# EAGLE library part SHT3* (library bschulz)
SHT3x - Digital Humidity and Temperature Sensor Characteristics (for SHT35): Vcc: 2.15V ~ 5.5V Humidity Resolution: 0.01% RH Humidity Accuracy: ±1.5% RH Temperature Resolution: 0.01°C Temperature Accuracy: 0.1°C Operating Temperature: -40°C to 125°C Digikey: 1649-1065-1-ND (SHT30) <https://www.digikey.com/product-detail/en/sensirion-ag/SHT30-DIS-F2.5KS/1649-1065-1-ND/6212136> 1649-1066-1-ND (SHT31) <https://www.digikey.com/product-detail/en/sensirion-ag/SHT31-DIS-F2.5KS/1649-1066-1-ND/6212137> 1649-1067-1-ND (SHT35) <https://www.digikey.com/product-detail/en/sensirion-ag/SHT35-DIS-F2.5KS/1649-1067-1-ND/6212138>
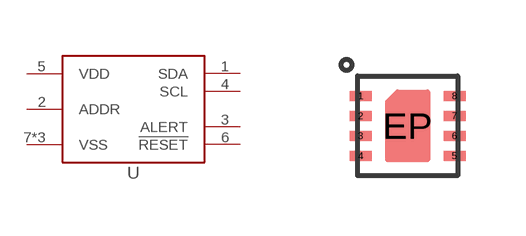
[diagram p94: symbol with the pads of DFN_8_2.5X2.5; footprint DFN_8_2.5X2.5]

Designator prefix U

## SHT3DFN (MF: Sensirion), SHT30DFN (DIGIKEY: 1649-1065-1-ND; DISP: SHT30; MF: Sensirion; MPN: SHT30-DIS-F2.5KS), SHT31DFN (DIGIKEY: 1649-1066-1-ND; DISP: SHT31; MF: Sensirion; MPN: SHT31-DIS-F2.5KS), SHT35DFN (DIGIKEY: 1649-1067-1-ND; DISP: SHT35; MF: Sensirion; MPN: SHT35-DIS-F2.5KS)  [DFN_8_2.5X2.5]
1  SDA
2  ADDR  in
3  ALERT  out
4  SCL  in
5  VDD  pwr
6  !RESET  in
7  VSS  pwr
8  VSS  pwr
EP  VSS  pwr

## Footprint DFN_8_2.5X2.5 (pad centres in mm)
DFN Package for SHT3x-DIS (SHT31, SHT35) Ref Datasheet <https://media.digikey.com/pdf/Data%20Sheets/Sensirion%20PDFs/HT_DS_SHT3x_DIS.pdf>
smd 0.55 x 0.25: 1 -1.175,0.75; 2 -1.175,0.25; 3 -1.175,-0.25; 4 -1.175,-0.75; 5 1.175,-0.75; 6 1.175,-0.25; 7 1.175,0.25; 8 1.175,0.75
smd 1 x 1: EP 0,0